# Altium schematic symbol library TPA3116D2-Q1.Schlib: 1 symbol
Pins are listed as number, name and electrical type; pins without a type are passive.

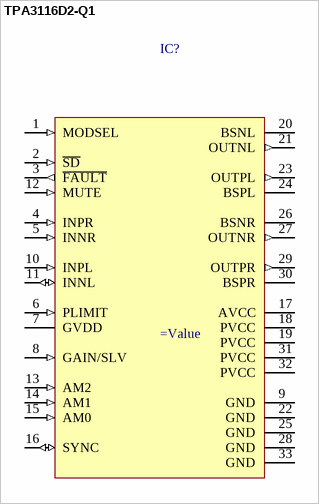
[diagram p0: symbol TPA3116D2-Q1]

## TPA3116D2-Q1
designator IC?
=Description
pins: 1 MODSEL (in), 2 ~{SD} (in), 3 ~{FAULT} (out), 4 INPR (in), 5 INNR (in), 6 PLIMIT (in), 7 GVDD (power), 8 GAIN/SLV (in), 9 GND (power), 10 INPL (in), 11 INNL (io), 12 MUTE (in), 13 AM2 (in), 14 AM1 (in), 15 AM0 (in), 16 SYNC (io), 17 AVCC (power), 18 PVCC (power), 19 PVCC (power), 20 BSNL, 21 OUTNL (out), 22 GND (power), 23 OUTPL (out), 24 BSPL, 25 GND (power), 26 BSNR, 27 OUTNR (out), 28 GND (power), 29 OUTPR (out), 30 BSPR, 31 PVCC (power), 32 PVCC (power), 33 GND (power)